# EAGLE library part 64334-0100_64334-0100 (library trans-emu)
Molex CMC Series, 64334 Series Number, 4 Row 32 Way Through Hole Plug Header, with Solder Termination Method Source: Datasheet <https://www.molex.com/pdm_docs/sd/643340100_sd.pdf>
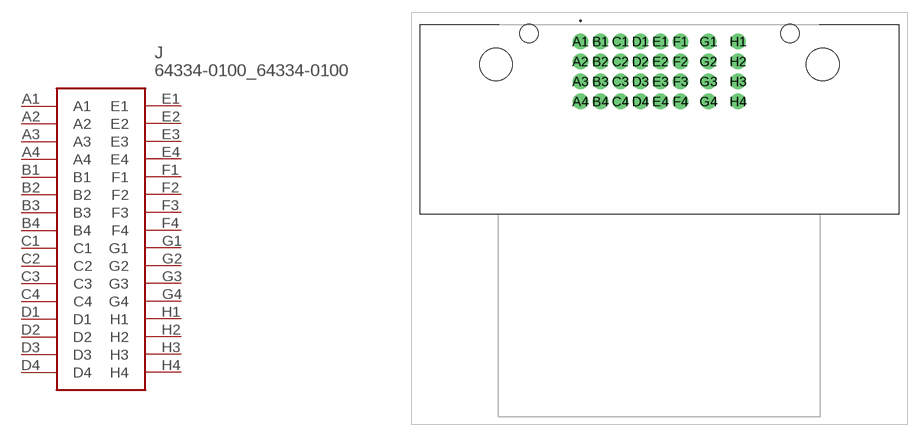
[diagram p0: symbol with the pads of 64334-0100_643340100; footprint 64334-0100_643340100]

Designator prefix J

## 64334-0100_64334-0100 (DESCRIPTION: Molex CMC Series, 64334 Series Number, 4 Row 32 Way Through Hole Plug Header, with Solder Termination Method; HEIGHT: 24.9mm; MANUFACTURER_NAME: Molex; MANUFACTURER_PART_NUMBER: 64334-0100; MOUSER_PART_NUMBER: 538-64334-0100; MOUSER_PRICE-STOCK: https://www.mouser.co.uk/ProductDetail/Molex/64334-0100/?qs=1v6ai6VCYQB4FZKAqE1dxQ%3D%3D)  [64334-0100_643340100]
A1  A1
A2  A2
A3  A3
A4  A4
B1  B1
B2  B2
B3  B3
B4  B4
C1  C1
C2  C2
C3  C3
C4  C4
D1  D1
D2  D2
D3  D3
D4  D4
E1  E1
E2  E2
E3  E3
E4  E4
F1  F1
F2  F2
F3  F3
F4  F4
G1  G1
G2  G2
G3  G3
G4  G4
H1  H1
H2  H2
H3  H3
H4  H4

## Footprint 64334-0100_643340100 (pad centres in mm)
64334-0100-2
drill 1.3 pad 1.95: A1 0,0; A2 0,-2.5; A3 0,-5; A4 0,-7.5; B1 2.5,0; B2 2.5,-2.5; B3 2.5,-5; B4 2.5,-7.5; C1 5,0; C2 5,-2.5; C3 5,-5; C4 5,-7.5; D1 7.5,0; D2 7.5,-2.5; D3 7.5,-5; D4 7.5,-7.5; E1 10,0; E2 10,-2.5; E3 10,-5; E4 10,-7.5; F1 12.5,0; F2 12.5,-2.5; F3 12.5,-5; F4 12.5,-7.5; G1 16,0; G2 16,-2.5; G3 16,-5; G4 16,-7.5; H1 19.7,0; H2 19.7,-2.5; H3 19.7,-5; H4 19.7,-7.5
hole 2.3 at -6.45,1
hole 4.1 at -10.55,-2.85
hole 4.1 at 30.25,-2.85
hole 2.3 at 26.15,1